# EAGLE library part MT3608 (library MT3608)
MT3608 High Efficiency 1.2MHz 2A Step Up Converter BY: Rangana Tennakoon
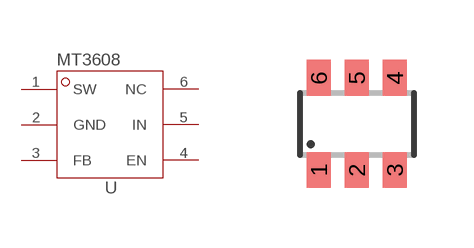
[diagram p0: symbol with the pads of SOT23-6; footprint SOT23-6]

Designator prefix -

## MT3608SOT23-6  [SOT23-6]
1  SW
2  GND
3  FB
4  EN
5  IN
6  NC

## Footprint SOT23-6 (pad centres in mm)
Small Outline Transistor 6 lead
smd 0.6 x 0.9: 1 -0.95,-1.15; 2 0,-1.15; 3 0.95,-1.15; 4 0.95,1.15; 5 0,1.15; 6 -0.95,1.15